# Altium schematic symbol library A4988 Module Header.SchLib: 1 symbol
Pins are listed as number, name and electrical type; pins without a type are passive.

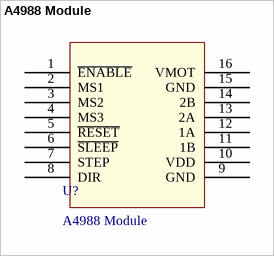
[diagram p0: symbol A4988 Module]

## A4988 Module
designator U?
Reference: https://www.pololu.com/product/1182
footprint A4988 Header
pins: 1 ~{ENABLE}, 2 MS1, 3 MS2, 4 MS3, 5 ~{RESET}, 6 ~{SLEEP}, 7 STEP, 8 DIR, 9 GND, 10 VDD, 11 1B, 12 1A, 13 2A, 14 2B, 15 GND, 16 VMOT